# Altium schematic symbol library Hare_Library.schlib: 126 symbols
Pins are listed as number, name and electrical type; pins without a type are passive.

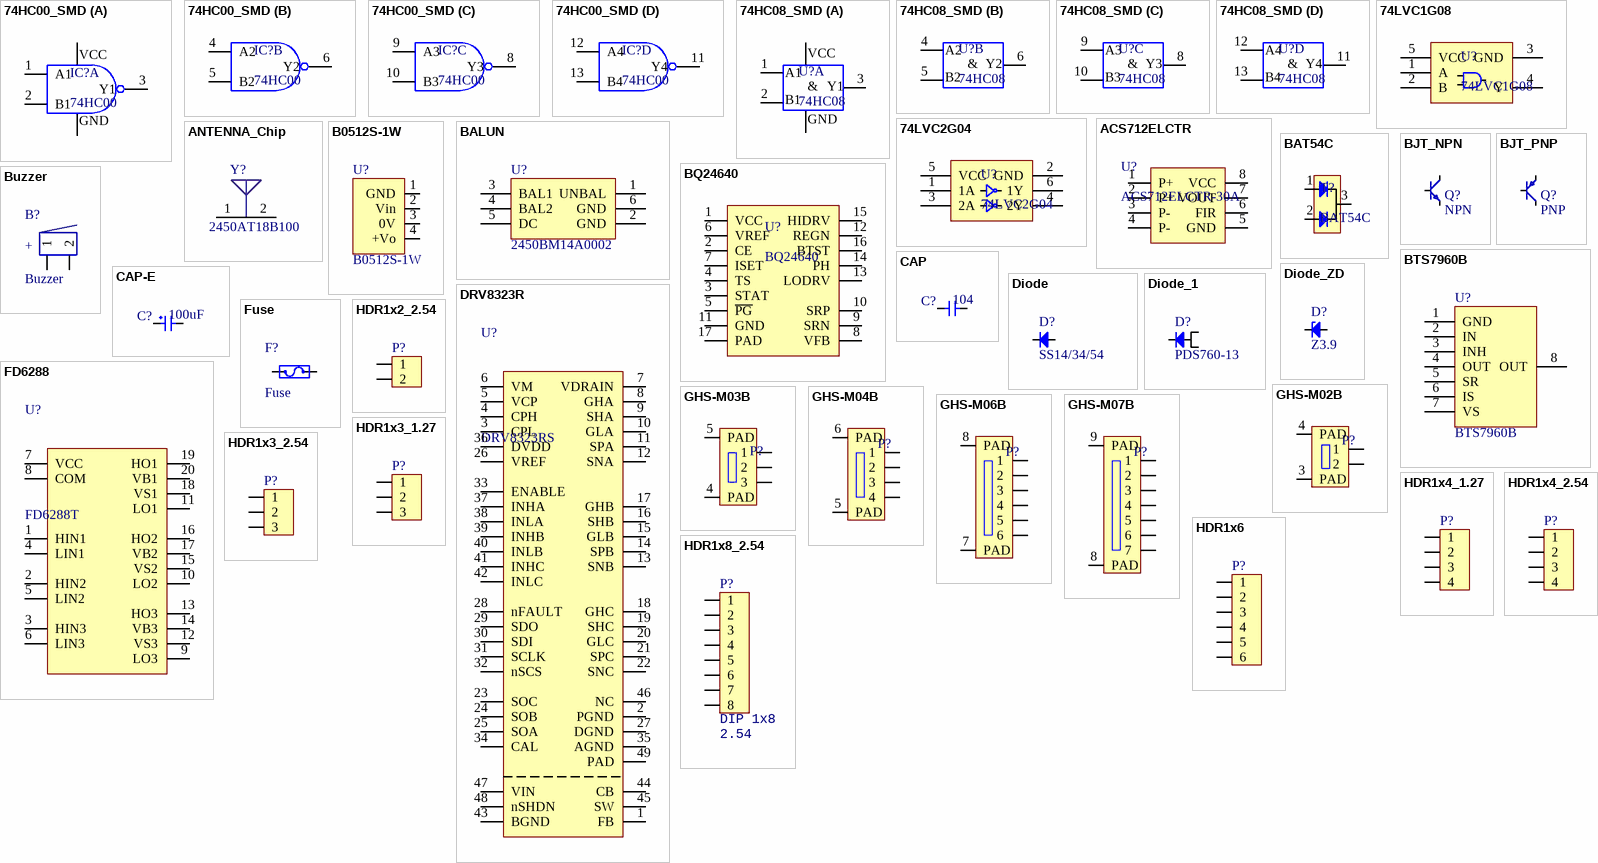
[diagram p0: symbols 74HC00_SMD to HDR1x8_2.54]

## 74HC00_SMD
designator IC?, comment 74HC00
footprint SOIC_14
part A pins: 1 A1, 2 B1, 3 Y1, 7 GND, 14 VCC
part B pins: 4 A2, 5 B2, 6 Y2
part C pins: 8 Y3, 9 A3, 10 B3
part D pins: 11 Y4, 12 A4, 13 B4

## 74HC08_SMD
designator U?, comment 74HC08
footprint SOIC_14
part A pins: 1 A1, 2 B1, 3 Y1, 7 GND, 14 VCC
part B pins: 4 A2, 5 B2, 6 Y2
part C pins: 8 Y3, 9 A3, 10 B3
part D pins: 11 Y4, 12 A4, 13 B4
part A text: &
part B text: &
part C text: &
part D text: &

## 74LVC1G08
designator U?
1通道与门
footprint SOT-23-5
pins: 1 A, 2 B, 3 GND, 4 Y, 5 VCC

## 74LVC2G04
designator U?
2通道非门
footprint SOT-23-6
pins: 1 1A, 2 GND, 3 2A, 4 2Y, 5 VCC, 6 1Y

## ACS712ELCTR
designator U?, comment ACS712ELCTR-30A
电流测量芯片
footprint SOIC_8
pins: 1 P+, 2 P+, 3 P-, 4 P-, 5 GND, 6 FIR, 7 VOUT, 8 VCC

## ANTENNA_Chip
designator Y?, comment 2450AT18B100
footprint 1206
pins: 1 FP, 2 NC

## B0512S-1W
designator U?
金升阳升压模块
footprint B0512S-1W
pins: 1 GND, 2 Vin, 3 0V, 4 +Vo

## BALUN
designator U?, comment 2450BM14A0002
巴伦平衡滤波器
footprint 0603-6 (SOIC, 6-Leads, Body 1.6x0.6mm (max), Pitch 1.27mm, IPC Medium Density)
pins: 1 UNBAL, 2 GND, 3 BAL1, 4 BAL2, 5 DC, 6 GND

## BAT54C
designator T?
footprint SOT-23-3
pins: 1, 2, 3

## BJT_NPN
designator Q?, comment NPN
Transistor
footprint SOT-23-3
pins: 1 B, 2 E, 3 C

## BJT_PNP
designator Q?, comment PNP
Transistor
footprint SOT-23-3
pins: 1 B, 2 E, 3 C

## BQ24640
designator U?
用于超级电容器的高效同步开关模式电池充电控制器
footprint VQFN16N
pins: 1 VCC, 2 CE, 3 STAT, 4 TS, 5 ~{PG}, 6 VREF, 7 ISET, 8 VFB, 9 SRN, 10 SRP, 11 GND, 12 REGN, 13 LODRV, 14 PH, 15 HIDRV, 16 BTST, 17 PAD

## BTS7960B
designator U?
footprint TO-263-7
pins: 1 GND, 2 IN, 3 INH, 4 OUT, 5 SR, 6 IS, 7 VS, 8 OUT

## Buzzer
designator B?
footprint Buzzer-4/5 (蜂鸣器脚距4-5mm)
footprint Buzzer-8530
footprint Buzzer-7525
pins: 1, 2
text: +

## CAP
designator C?, comment 104
footprint CAP-0402
footprint CAP-0603 (贴片0603无极性电容)
footprint CAP-0805
footprint CAP-1206 (贴片元件)
footprint CAP-1210 (贴片电容)
footprint CAP-0603-L
footprint CAP-1210-L (Chip Capacitor, 2-Leads, Body 3.20x2.50mm, IPC Medium Density)
footprint CAP-5750
pins: 1, 2

## CAP-E
designator C?, comment 100uF
pins: 1, 2

## Diode
designator D?, comment SS14/34/54
footprint Diode_AXL (直插二极管)
footprint Diode_SMA
footprint Diode_SMB
footprint Diode_SMC
footprint SOD_323
pins: 1, 2

## Diode_1
designator D?, comment PDS760-13
footprint PowerDi-5
pins: 1, 2, 3

## Diode_ZD
designator D?, comment Z3.9
footprint SOD_123
pins: 1, 2

## DRV8323R
designator U?, comment DRV8323RS
具有降压稳压器和三个分流放大器的 60V 三相智能栅极驱动器
footprint QFN_P0.5_48
pins: 1 FB, 2 PGND, 3 CPL, 4 CPH, 5 VCP, 6 VM, 7 VDRAIN, 8 GHA, 9 SHA, 10 GLA, 11 SPA, 12 SNA, 13 SNB, 14 SPB, 15 GLB, 16 SHB, 17 GHB, 18 GHC, 19 SHC, 20 GLC, 21 SPC, 22 SNC, 23 SOC, 24 SOB, 25 SOA, 26 VREF, 27 DGND, 28 nFAULT, 29 SDO, 30 SDI, 31 SCLK, 32 nSCS, 33 ENABLE, 34 CAL, 35 AGND, 36 DVDD, 37 INHA, 38 INLA, 39 INHB, 40 INLB, 41 INHC, 42 INLC, 43 BGND, 44 CB, 45 SW, 46 NC, 47 VIN, 48 nSHDN, 49 PAD

## FD6288
designator U?, comment FD6288T
三相250V栅极驱动器
footprint TSSOP_E170_P0.65_20
pins: 1 HIN1, 2 HIN2, 3 HIN3, 4 LIN1, 5 LIN2, 6 LIN3, 7 VCC, 8 COM, 9 LO3, 10 LO2, 11 LO1, 12 VS3, 13 HO3, 14 VB3, 15 VS2, 16 HO2, 17 VB2, 18 VS1, 19 HO1, 20 VB1

## Fuse
designator F?
footprint Fuse_0805 (500mA保险丝)
footprint FUSE_1206
footprint R-0603
footprint FUSE_1808 (1808/2410保险丝座)
pins: 1, 2

## GHS-M02B
designator P?, comment GH02  (value not drawn)
02GH座
footprint BM02B-GHS-TBT (GH02立式)
footprint SM02B-GHS-TB (GH02卧式)
pins: 1, 2, 3 PAD, 4 PAD

## GHS-M03B
designator P?, comment GH03  (value not drawn)
03GH座
footprint BM03B-GHS-TBT (GH03立式)
footprint SM03B-GHS-TB (GH03卧式)
pins: 1, 2, 3, 4 PAD, 5 PAD

## GHS-M04B
designator P?, comment GH04  (value not drawn)
04GH座
footprint BM04B-GHS-TBT (GH04立式)
footprint SM04B-GHS-TB (GH04卧式)
pins: 1, 2, 3, 4, 5 PAD, 6 PAD

## GHS-M06B
designator P?, comment GH06  (value not drawn)
06GH座
footprint BM06B-GHS-TBT (GH06立式)
footprint SM06B-GHS-TB (GH06卧式)
pins: 1, 2, 3, 4, 5, 6, 7 PAD, 8 PAD

## GHS-M07B
designator P?, comment GH07  (value not drawn)
07GH座
footprint BM07B-GHS-TBT (Footprint not found)
footprint SM07B-GHS-TB (GH07卧式)
pins: 1, 2, 3, 4, 5, 6, 7, 8 PAD, 9 PAD

## HDR1x2_2.54
designator P?  (value not drawn)
Header
footprint HDR1X2_2.54_90
footprint HDR1X2_2.54_90F
footprint HDR1X2_2.54_180
footprint HDR1X2_2.54_180F
footprint HDR1X2_2.54_180H
footprint HDR1X2_2.54_180HD
pins: 1, 2

## HDR1x3_1.27
designator P?  (value not drawn)
Header
footprint HDR1X3_1.27_180
footprint HDR1X3_1.27_180HF
pins: 1, 2, 3

## HDR1x3_2.54
designator P?  (value not drawn)
Header
footprint HDR1X3_2.54_90
footprint HDR1X3_2.54_90F
footprint HDR1X3_2.54_180
footprint HDR1X3_2.54_180F
pins: 1, 2, 3

## HDR1x4_1.27
designator P?  (value not drawn)
Header
footprint HDR1X4_1.27_180
footprint HDR1X4_1.27_180F
footprint HDR1X4_1.27_180H
footprint HDR1X4_1.27_180HF
pins: 1, 2, 3, 4

## HDR1x4_2.54
designator P?  (value not drawn)
Header
footprint HDR1X4_2.54_90 (Footprint not found)
footprint HDR1X4_2.54_90F (Footprint not found)
footprint HDR1x4_2.54_180 (Footprint not found)
footprint HDR1X4_2.54_180F (Footprint not found)
footprint HDR1X4_2.54_180H (Footprint not found)
pins: 1, 2, 3, 4

## HDR1x6
designator P?  (value not drawn)
Header
footprint HDR1X6_2.0_180F
pins: 1, 2, 3, 4, 5, 6

## HDR1x8_2.54
designator P?, comment value 2.54  (hidden comment: DIP 1x8)
Header; Type: DIP 1x8
footprint HDR1X8_2.54_90 (Footprint not found)
footprint HDR1X8_2.54_90F (Footprint not found)
footprint HDR1X8_2.54_180
footprint HDR1X8_2.54_180F
footprint HDR1X8_2.54_180S
pins: 1, 2, 3, 4, 5, 6, 7, 8

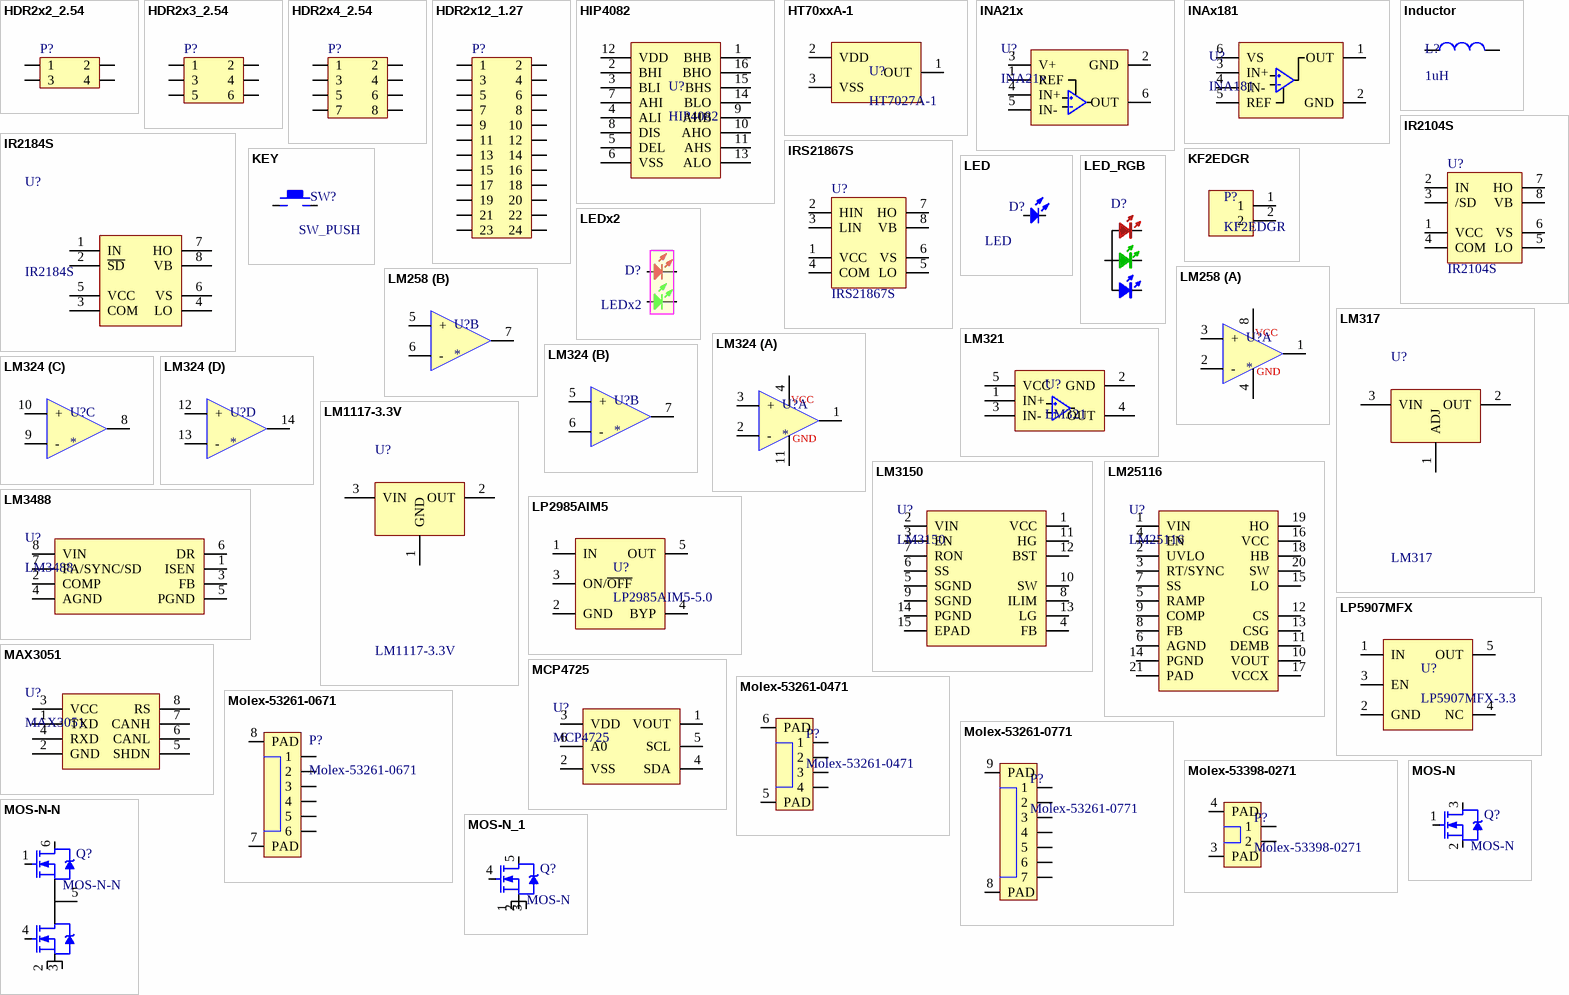
[diagram p1: symbols HDR2x2_2.54 to MOS-N_1]

## HDR2x2_2.54
designator P?  (value not drawn)
Header
footprint HDR2X2_2.54_90
footprint HDR2X2_2.54_90F
footprint HDR2X2_2.54_180
footprint HDR2X2_2.54_180F
footprint HDR2X2_2.54_180H
pins: 1, 2, 3, 4

## HDR2x3_2.54
designator P?  (value not drawn)
Header
footprint HDR2X3_2.54_90
footprint HDR2X3_2.54_90F
footprint HDR2X3_2.54_180
footprint HDR2X3_2.54_180F
footprint HDR2X3_2.54_180H
pins: 1, 2, 3, 4, 5, 6

## HDR2x4_2.54
designator P?  (value not drawn)
Header
footprint HDR2X4_2.54_90 (Footprint not found)
footprint HDR2X4_2.54_90F (Footprint not found)
footprint HDR2X4_2.54_180 (Footprint not found)
footprint HDR2X4_2.54_180F (Footprint not found)
footprint HDR2X4_2.54_180H (Footprint not found)
footprint HDR2X4_2.54_180HF (Footprint not found)
pins: 1, 2, 3, 4, 5, 6, 7, 8

## HDR2x12_1.27
designator P?  (value not drawn)
Header
footprint HDR2X12_2.54_180
footprint HDR2X12_2.54_180HF
footprint HDR2X12_1.27_180HF
footprint HDR2X12_2.54_180F
footprint HDR2X12_1.27_180HF
pins: 1, 2, 3, 4, 5, 6, 7, 8, 9, 10, 11, 12, 13, 14, 15, 16, 17, 18, 19, 20, 21, 22, 23, 24

## HIP4082
designator U?
footprint SOP_16
pins: 1 BHB, 2 BHI, 3 BLI, 4 ALI, 5 DEL, 6 VSS, 7 AHI, 8 DIS, 9 AHB, 10 AHO, 11 AHS, 12 VDD, 13 ALO, 14 BLO, 15 BHS, 16 BHO

## HT70xxA-1
designator U?, comment HT7027A-1
电压检测器
footprint SOT-89-3
pins: 1 OUT, 2 VDD, 3 VSS

## INA21x
designator U?
低侧/高侧、电压输出电流分流监控器
footprint SOT-23-6
pins: 1 REF, 2 GND, 3 V+, 4 IN+, 5 IN-, 6 OUT

## INAx181
designator U?, comment INA181
低侧/高侧、电压输出电流分流监控器
footprint SOT-23-6
pins: 1 OUT, 2 GND, 3 IN+, 4 IN-, 5 REF, 6 VS

## Inductor
designator L?, comment 1uH
电感
footprint L-SMD-3D16 (贴片电感4x4)
footprint L-SMD-4D28 (贴片电感5x5)
footprint L-0850 (7.8*7.5*5.0MM(长*宽*高))
footprint L-0630 (7*6.6*2.8MM(长*宽*高))
footprint L-0603
footprint L-10040 (10.1*11.6*4.0MM(长*宽*高))
pins: 1, 2

## IR2104S
designator U?
footprint SOIC_8
pins: 1 VCC, 2 IN, 3 /SD, 4 COM, 5 LO, 6 VS, 7 HO, 8 VB

## IR2184S
designator U?
footprint SOIC_8
pins: 1 IN, 2 ~{SD}, 3 COM, 4 LO, 5 VCC, 6 VS, 7 HO, 8 VB

## IRS21867S
designator U?
footprint SOIC_8
pins: 1 VCC, 2 HIN, 3 LIN, 4 COM, 5 LO, 6 VS, 7 HO, 8 VB

## KEY
designator SW?, comment SW_PUSH
footprint KEY_M (KEY_MID)
footprint KEY_2 (KEY?)
footprint KEY_SOP_BG (KEY?)
footprint KEY 侧式 (按键 贴片 侧式)
footprint KEY_2S
footprint KEY-1-2
footprint KEY-4P-4.2*3.4*2.5 (SKRPABE010)
pins: 1, 2

## KF2EDGR
designator P?
footprint KF2EDGR-3.81.2P
pins: 1, 2

## LED
designator D?
footprint LED-0603 (贴片0603发光二极管)
footprint LED-0805 (贴片0805发光二极管)
pins: 1, 2

## LED_RGB
designator D?  (value not drawn)
footprint LED_3528_RGB
pins: 1 R, 2 G, 3 B, 4 A

## LEDx2
designator D?
双色led
footprint LED_1616
pins: 1, 2, 3, 4

## LM258
designator U?
footprint SOIC_8
part A pins: 1, 2 -, 3 +, 4, 8
part B pins: 5 +, 6 -, 7
part A text: VCC; GND

## LM317
designator U?
可调三端稳压
footprint SOT-223
pins: 1 ADJ, 2 OUT, 3 VIN

## LM321
designator U?
1通道运放
footprint SOT-23-5
pins: 1 IN+, 2 GND, 3 IN-, 4 OUT, 5 VCC

## LM324
designator U?
footprint SOIC_14
part A pins: 1, 2 -, 3 +, 4, 11
part B pins: 5 +, 6 -, 7
part C pins: 8, 9 -, 10 +
part D pins: 12 +, 13 -, 14
part A text: VCC; GND

## LM1117-3.3V
designator U?
footprint SOT-223
pins: 1 GND, 2 OUT, 3 VIN

## LM3150
designator U?
具有可调输出电压的 6V 至 42V 同步降压控制器
footprint TSSOP_E170_P0.65_14_PAD
pins: 1 VCC, 2 VIN, 3 EN, 4 FB, 5 SGND, 6 SS, 7 RON, 8 ILIM, 9 SGND, 10 SW, 11 HG, 12 BST, 13 LG, 14 PGND, 15 EPAD

## LM3488
designator U?
Automotive High-Efficiency Controller for Boost, SEPIC and Fly-Back DC-DCConverters
footprint MSOP_E120_P0.5_10
pins: 1 ISEN, 2 COMP, 3 FB, 4 AGND, 5 PGND, 6 DR, 7 FA/SYNC/SD, 8 VIN

## LM25116
designator U?
42V 宽输入电压同步降压控制器
footprint TSSOP_E170_P0.65_20_PAD (Footprint not found)
pins: 1 VIN, 2 UVLO, 3 RT/SYNC, 4 EN, 5 RAMP, 6 AGND, 7 SS, 8 FB, 9 COMP, 10 VOUT, 11 DEMB, 12 CS, 13 CSG, 14 PGND, 15 LO, 16 VCC, 17 VCCX, 18 HB, 19 HO, 20 SW, 21 PAD

## LP2985AIM5
designator U?, comment LP2985AIM5-5.0
5.0-LDO
footprint SOT-23-5
pins: 1 IN, 2 GND, 3 ON/~{OFF}, 4 BYP, 5 OUT

## LP5907MFX
designator U?, comment LP5907MFX-3.3
footprint SOT-23-5
pins: 1 IN, 2 GND, 3 EN, 4 NC, 5 OUT

## MAX3051
designator U?
CAN控制器
footprint SOT-23-8
pins: 1 TXD, 2 GND, 3 VCC, 4 RXD, 5 SHDN, 6 CANL, 7 CANH, 8 RS

## MCP4725
designator U?
I2C 12bit DAC
footprint SOT-23-6
pins: 1 VOUT, 2 VSS, 3 VDD, 4 SDA, 5 SCL, 6 A0

## Molex-53261-0471
designator P?
1.25mm Pitch PicoBlade Header
footprint Molex-53261-0471 (1.25mm Pitch PicoBlade Header)
pins: 1, 2, 3, 4, 5 PAD, 6 PAD

## Molex-53261-0671
designator P?
1.25mm Pitch PicoBlade Header
footprint Molex-53261-0671 (卧式1.25mm Pitch PicoBlade Header)
pins: 1, 2, 3, 4, 5, 6, 7 PAD, 8 PAD

## Molex-53261-0771
designator P?
1.25mm Pitch PicoBlade Header
footprint Molex-53261-0771 (卧式1.25mm Pitch PicoBlade Header)
pins: 1, 2, 3, 4, 5, 6, 7, 8 PAD, 9 PAD

## Molex-53398-0271
designator P?
1.25mm Pitch PicoBlade Header
footprint Molex-53398-0271 (立式1.25mm Pitch PicoBlade Header)
footprint Molex-53261-0271 (卧式1.25mm Pitch PicoBlade Header)
pins: 1, 2, 3 PAD, 4 PAD

## MOS-N
designator Q?
footprint TO-252 (贴片MOS管)
footprint SOT-23-3
footprint TO-252-small (贴片MOS管)
pins: 1 G, 2 S, 3 D

## MOS-N-N
designator Q?
footprint DFN5×6 EP2
pins: 1 G, 2 S, 3 S, 4 G, 5 D, 6 D

## MOS-N_1
designator Q?, comment MOS-N
footprint SOT-669 (DPAK, 4-Leads, Body 5x4.1mm, Pitch 1.27mm, IPC Medium Density)
footprint DFN5x6
pins: 1 S, 2 S, 3 S, 4 G, 5 D

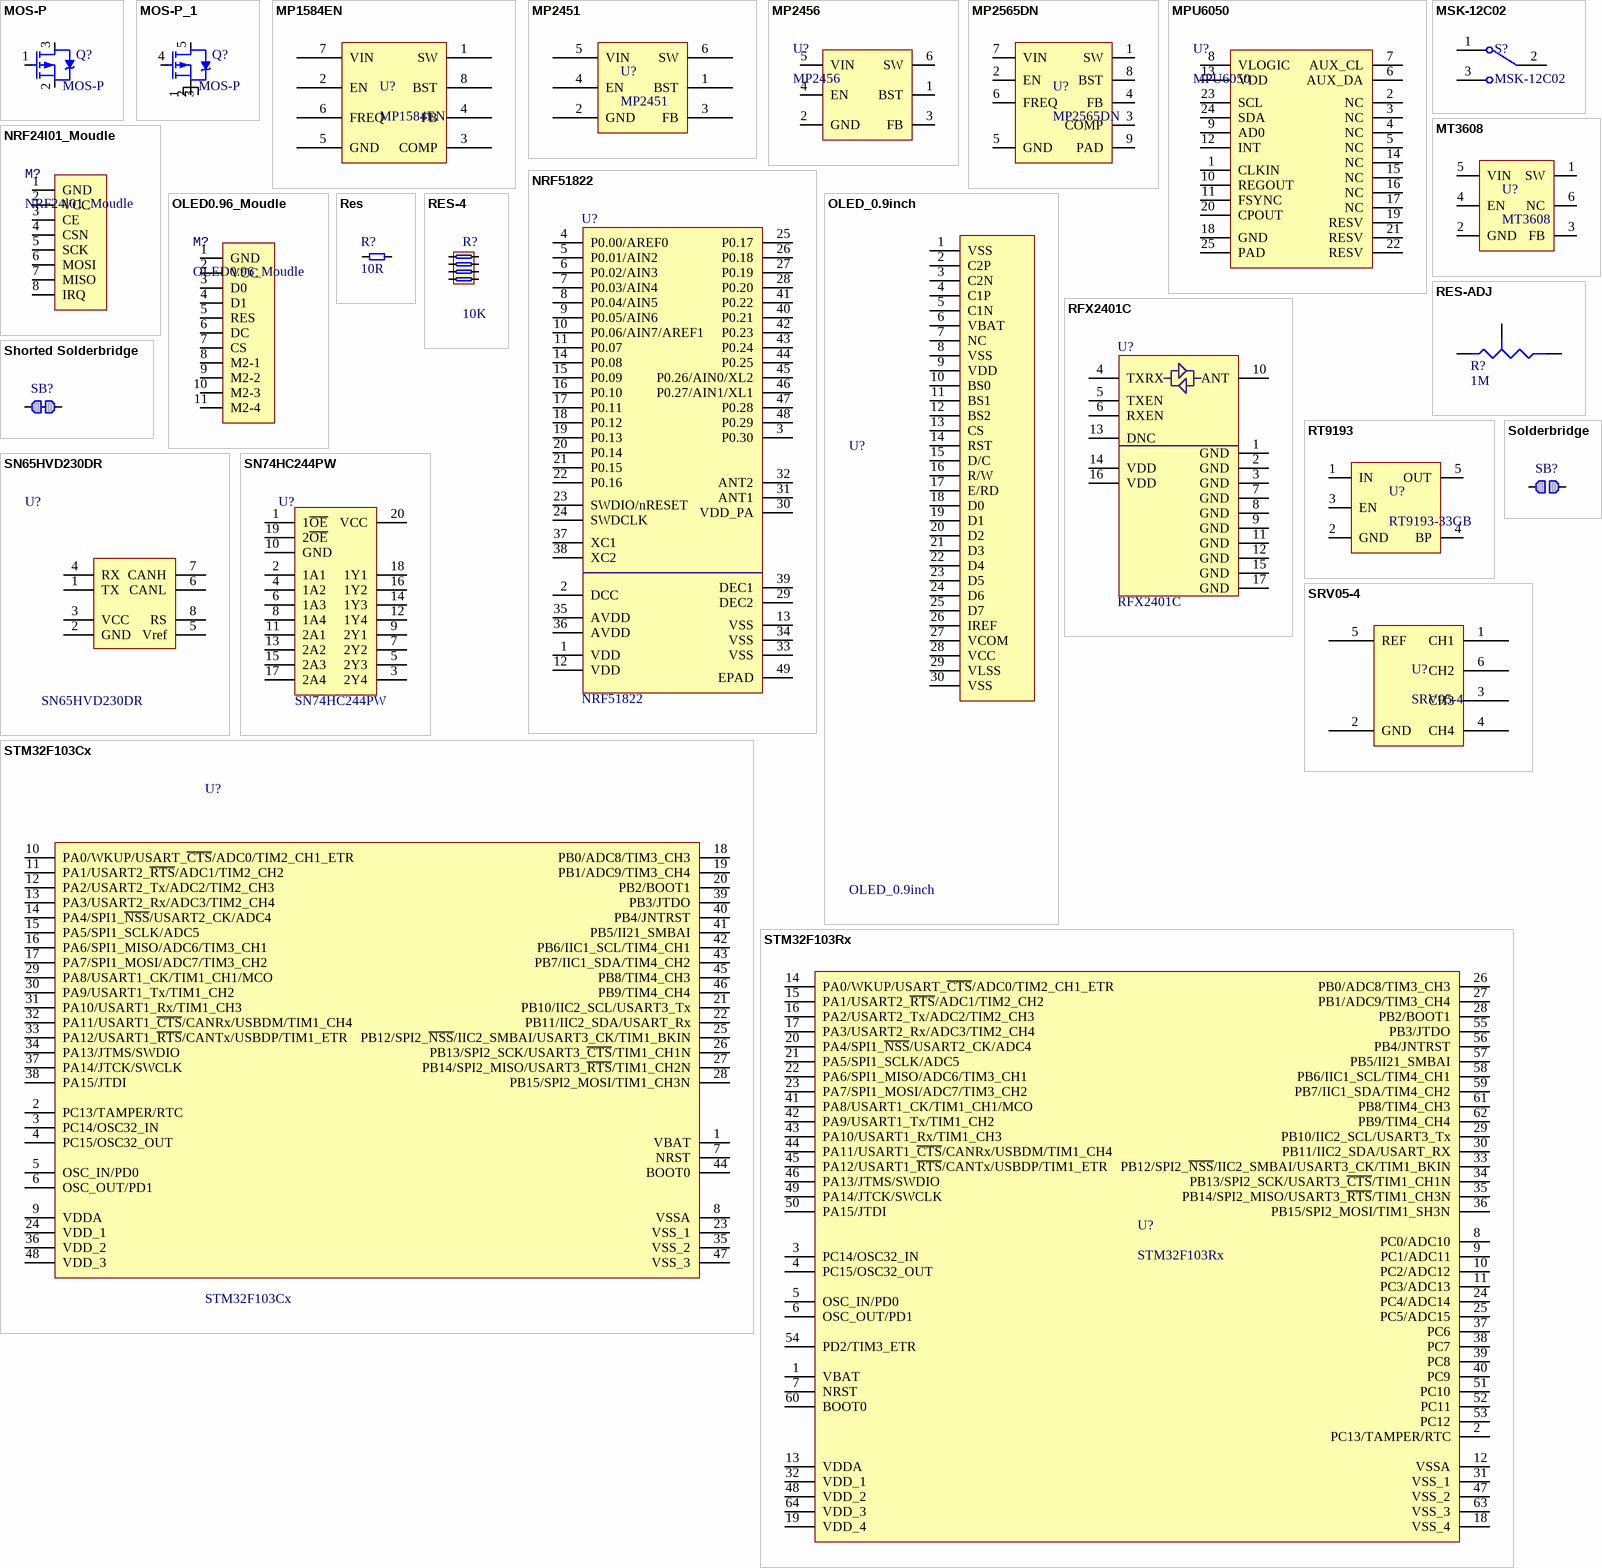
[diagram p2: symbols MOS-P to STM32F103Rx]

## MOS-P
designator Q?
footprint TO-252 (贴片MOS管)
footprint TO-252-small (贴片MOS管)
footprint SOT-23-3
pins: 1 G, 2 S, 3 D

## MOS-P_1
designator Q?, comment MOS-P
footprint SOT-669 (DPAK, 4-Leads, Body 5x4.1mm, Pitch 1.27mm, IPC Medium Density)
footprint DFN5x6
pins: 1 S, 2 S, 3 S, 4 G, 5 D

## MP1584EN
designator U?
footprint SOIC_8_PAD
pins: 1 SW, 2 EN, 3 COMP, 4 FB, 5 GND, 6 FREQ, 7 VIN, 8 BST

## MP2451
designator U?
footprint SOT-23-6
pins: 1 BST, 2 GND, 3 FB, 4 EN, 5 VIN, 6 SW

## MP2456
designator U?
footprint SOT-23-6
pins: 1 BST, 2 GND, 3 FB, 4 EN, 5 VIN, 6 SW

## MP2565DN
designator U?
2.5A, 4MHz, 50V
footprint SOIC_8_PAD
pins: 1 SW, 2 EN, 3 COMP, 4 FB, 5 GND, 6 FREQ, 7 VIN, 8 BST, 9 PAD

## MPU6050
designator U?
Sensor Motion; Type: QFN24 P0.4
footprint QFN-24-4x4 (QFN, 24-Leads, Body 4.00x4.00mm, Pitch 0.50mm, Thermal Pad 2.70x2.60mm, IPC Medium Density)
pins: 1 CLKIN, 2 NC, 3 NC, 4 NC, 5 NC, 6 AUX_DA, 7 AUX_CL, 8 VLOGIC, 9 AD0, 10 REGOUT, 11 FSYNC, 12 INT, 13 VDD, 14 NC, 15 NC, 16 NC, 17 NC, 18 GND, 19 RESV, 20 CPOUT, 21 RESV, 22 RESV, 23 SCL, 24 SDA, 25 PAD

## MSK-12C02
designator S?
footprint MSK-12C02
pins: 1, 2 6, 3 5

## MT3608
designator U?
footprint SOT-23-6
pins: 1 SW, 2 GND, 3 FB, 4 EN, 5 VIN, 6 NC

## NRF24l01_Moudle
designator M?
footprint NRF24l01_Moudle
pins: 1 GND, 2 VCC, 3 CE, 4 CSN, 5 SCK, 6 MOSI, 7 MISO, 8 IRQ

## NRF51822
designator U?
footprint QFN48M-04 (QFN, 48-Leads, Body 6.0x6.0mm (max), Pitch 0.40mm, IPC Low Density)
pins: 1 VDD, 2 DCC, 3 P0.30, 4 P0.00/AREF0, 5 P0.01/AIN2, 6 P0.02/AIN3, 7 P0.03/AIN4, 8 P0.04/AIN5, 9 P0.05/AIN6, 10 P0.06/AIN7/AREF1, 11 P0.07, 12 VDD, 13 VSS, 14 P0.08, 15 P0.09, 16 P0.10, 17 P0.11, 18 P0.12, 19 P0.13, 20 P0.14, 21 P0.15, 22 P0.16, 23 SWDIO/nRESET, 24 SWDCLK, 25 P0.17, 26 P0.18, 27 P0.19, 28 P0.20, 29 DEC2, 30 VDD_PA, 31 ANT1, 32 ANT2, 33 VSS, 34 VSS, 35 AVDD, 36 AVDD, 37 XC1, 38 XC2, 39 DEC1, 40 P0.21, 41 P0.22, 42 P0.23, 43 P0.24, 44 P0.25, 45 P0.26/AIN0/XL2, 46 P0.27/AIN1/XL1, 47 P0.28, 48 P0.29, 49 EPAD

## OLED0.96_Moudle
designator M?
footprint OLED0.96_Moudle
pins: 1 GND, 2 VCC, 3 D0, 4 D1, 5 RES, 6 DC, 7 CS, 8 M2-1, 9 M2-2, 10 M2-3, 11 M2-4

## OLED_0.9inch
designator U?
footprint OLED_0.96inch
pins: 1 VSS, 2 C2P, 3 C2N, 4 C1P, 5 C1N, 6 VBAT, 7 NC, 8 VSS, 9 VDD, 10 BS0, 11 BS1, 12 BS2, 13 CS, 14 RST, 15 D/C, 16 R/W, 17 E/RD, 18 D0, 19 D1, 20 D2, 21 D3, 22 D4, 23 D5, 24 D6, 25 D7, 26 IREF, 27 VCOM, 28 VCC, 29 VLSS, 30 VSS

## Res
designator R?, comment 10R
footprint R-0402
footprint R-0603 (贴片0603电容)
footprint R-0805 (贴片0805电阻)
footprint R-0603-L
pins: 1, 2

## RES-4
designator R?, comment 10K
footprint R-0402X4
footprint R-0603X4
pins: 1, 2, 3, 4, 5, 6, 7, 8

## RES-ADJ
designator R?, comment 1M
footprint R-ADJ-3X3
footprint R-ADJ-3296W
footprint 3314J-1-5*5mm (进口电位器)
pins: 1, 2, 3

## RFX2401C
designator U?
footprint QFN16 (QFN, 16-Leads, Body 3.1x3.1mm (max), Pitch 0.50mm, IPC Medium Density)
footprint QFN16M
pins: 1 GND, 2 GND, 3 GND, 4 TXRX, 5 TXEN, 6 RXEN, 7 GND, 8 GND, 9 GND, 10 ANT, 11 GND, 12 GND, 13 DNC, 14 VDD, 15 GND, 16 VDD, 17 GND

## RT9193
designator U?, comment RT9193-33GB
LDO
footprint SOT-23-5
pins: 1 IN, 2 GND, 3 EN, 4 BP, 5 OUT

## Shorted Solderbridge
designator SB?, comment Solderbridge  (value not drawn)  (no BOM)
Shorted Solderbridge; Value: Solderbridge
footprint Solderbridge_Shorted
pins: 1, 2

## SN65HVD230DR
designator U?
CAN芯片
footprint SOIC_8
pins: 1 TX, 2 GND, 3 VCC, 4 RX, 5 Vref, 6 CANL, 7 CANH, 8 RS

## SN74HC244PW
designator U?
footprint TSSOP20
pins: 1 1~{OE}, 2 1A1, 3 2Y4, 4 1A2, 5 2Y3, 6 1A3, 7 2Y2, 8 1A4, 9 2Y1, 10 GND, 11 2A1, 12 1Y4, 13 2A2, 14 1Y3, 15 2A3, 16 1Y2, 17 2A4, 18 1Y1, 19 2~{OE}, 20 VCC

## Solderbridge
designator SB?  (value not drawn)  (no BOM)
Value: Solderbridge
footprint Solderbridge
footprint Solderbridge-0603
pins: 1, 2

## SRV05-4
designator U?
footprint SOT-23-6
pins: 1 CH1, 2 GND, 3 CH3, 4 CH4, 5 REF, 6 CH2

## STM32F103Cx
designator U?
footprint LQFP_48
pins: 1 VBAT, 2 PC13/TAMPER/RTC, 3 PC14/OSC32_IN, 4 PC15/OSC32_OUT, 5 OSC_IN/PD0, 6 OSC_OUT/PD1, 7 NRST, 8 VSSA, 9 VDDA, 10 PA0/WKUP/USART_~{CTS}/ADC0/TIM2_CH1_ETR, 11 PA1/USART2_~{RTS}/ADC1/TIM2_CH2, 12 PA2/USART2_Tx/ADC2/TIM2_CH3, 13 PA3/USART2_Rx/ADC3/TIM2_CH4, 14 PA4/SPI1_~{NSS}/USART2_CK/ADC4, 15 PA5/SPI1_SCLK/ADC5, 16 PA6/SPI1_MISO/ADC6/TIM3_CH1, 17 PA7/SPI1_MOSI/ADC7/TIM3_CH2, 18 PB0/ADC8/TIM3_CH3, 19 PB1/ADC9/TIM3_CH4, 20 PB2/BOOT1, 21 PB10/IIC2_SCL/USART3_Tx, 22 PB11/IIC2_SDA/USART_Rx, 23 VSS_1, 24 VDD_1, 25 PB12/SPI2_~{NSS}/IIC2_SMBAI/USART3_CK/TIM1_BKIN, 26 PB13/SPI2_SCK/USART3_~{CTS}/TIM1_CH1N, 27 PB14/SPI2_MISO/USART3_~{RTS}/TIM1_CH2N, 28 PB15/SPI2_MOSI/TIM1_CH3N, 29 PA8/USART1_CK/TIM1_CH1/MCO, 30 PA9/USART1_Tx/TIM1_CH2, 31 PA10/USART1_Rx/TIM1_CH3, 32 PA11/USART1_~{CTS}/CANRx/USBDM/TIM1_CH4, 33 PA12/USART1_~{RTS}/CANTx/USBDP/TIM1_ETR, 34 PA13/JTMS/SWDIO, 35 VSS_2, 36 VDD_2, 37 PA14/JTCK/SWCLK, 38 PA15/JTDI, 39 PB3/JTDO, 40 PB4/JNTRST, 41 PB5/II21_SMBAI, 42 PB6/IIC1_SCL/TIM4_CH1, 43 PB7/IIC1_SDA/TIM4_CH2, 44 BOOT0, 45 PB8/TIM4_CH3, 46 PB9/TIM4_CH4, 47 VSS_3, 48 VDD_3

## STM32F103Rx
designator U?
footprint LQFP_64
pins: 1 VBAT, 2 PC13/TAMPER/RTC, 3 PC14/OSC32_IN, 4 PC15/OSC32_OUT, 5 OSC_IN/PD0, 6 OSC_OUT/PD1, 7 NRST, 8 PC0/ADC10, 9 PC1/ADC11, 10 PC2/ADC12, 11 PC3/ADC13, 12 VSSA, 13 VDDA, 14 PA0/WKUP/USART_~{CTS}/ADC0/TIM2_CH1_ETR, 15 PA1/USART2_~{RTS}/ADC1/TIM2_CH2, 16 PA2/USART2_Tx/ADC2/TIM2_CH3, 17 PA3/USART2_Rx/ADC3/TIM2_CH4, 18 VSS_4, 19 VDD_4, 20 PA4/SPI1_~{NSS}/USART2_CK/ADC4, 21 PA5/SPI1_SCLK/ADC5, 22 PA6/SPI1_MISO/ADC6/TIM3_CH1, 23 PA7/SPI1_MOSI/ADC7/TIM3_CH2, 24 PC4/ADC14, 25 PC5/ADC15, 26 PB0/ADC8/TIM3_CH3, 27 PB1/ADC9/TIM3_CH4, 28 PB2/BOOT1, 29 PB10/IIC2_SCL/USART3_Tx, 30 PB11/IIC2_SDA/USART_RX, 31 VSS_1, 32 VDD_1, 33 PB12/SPI2_~{NSS}/IIC2_SMBAI/USART3_CK/TIM1_BKIN, 34 PB13/SPI2_SCK/USART3_~{CTS}/TIM1_CH1N, 35 PB14/SPI2_MISO/USART3_~{RTS}/TIM1_CH3N, 36 PB15/SPI2_MOSI/TIM1_SH3N, 37 PC6, 38 PC7, 39 PC8, 40 PC9, 41 PA8/USART1_CK/TIM1_CH1/MCO, 42 PA9/USART1_Tx/TIM1_CH2, 43 PA10/USART1_Rx/TIM1_CH3, 44 PA11/USART1_~{CTS}/CANRx/USBDM/TIM1_CH4, 45 PA12/USART1_~{RTS}/CANTx/USBDP/TIM1_ETR, 46 PA13/JTMS/SWDIO, 47 VSS_2, 48 VDD_2, 49 PA14/JTCK/SWCLK, 50 PA15/JTDI, 51 PC10, 52 PC11, 53 PC12, 54 PD2/TIM3_ETR, 55 PB3/JTDO, 56 PB4/JNTRST, 57 PB5/II21_SMBAI, 58 PB6/IIC1_SCL/TIM4_CH1, 59 PB7/IIC1_SDA/TIM4_CH2, 60 BOOT0, 61 PB8/TIM4_CH3, 62 PB9/TIM4_CH4, 63 VSS_3, 64 VDD_3

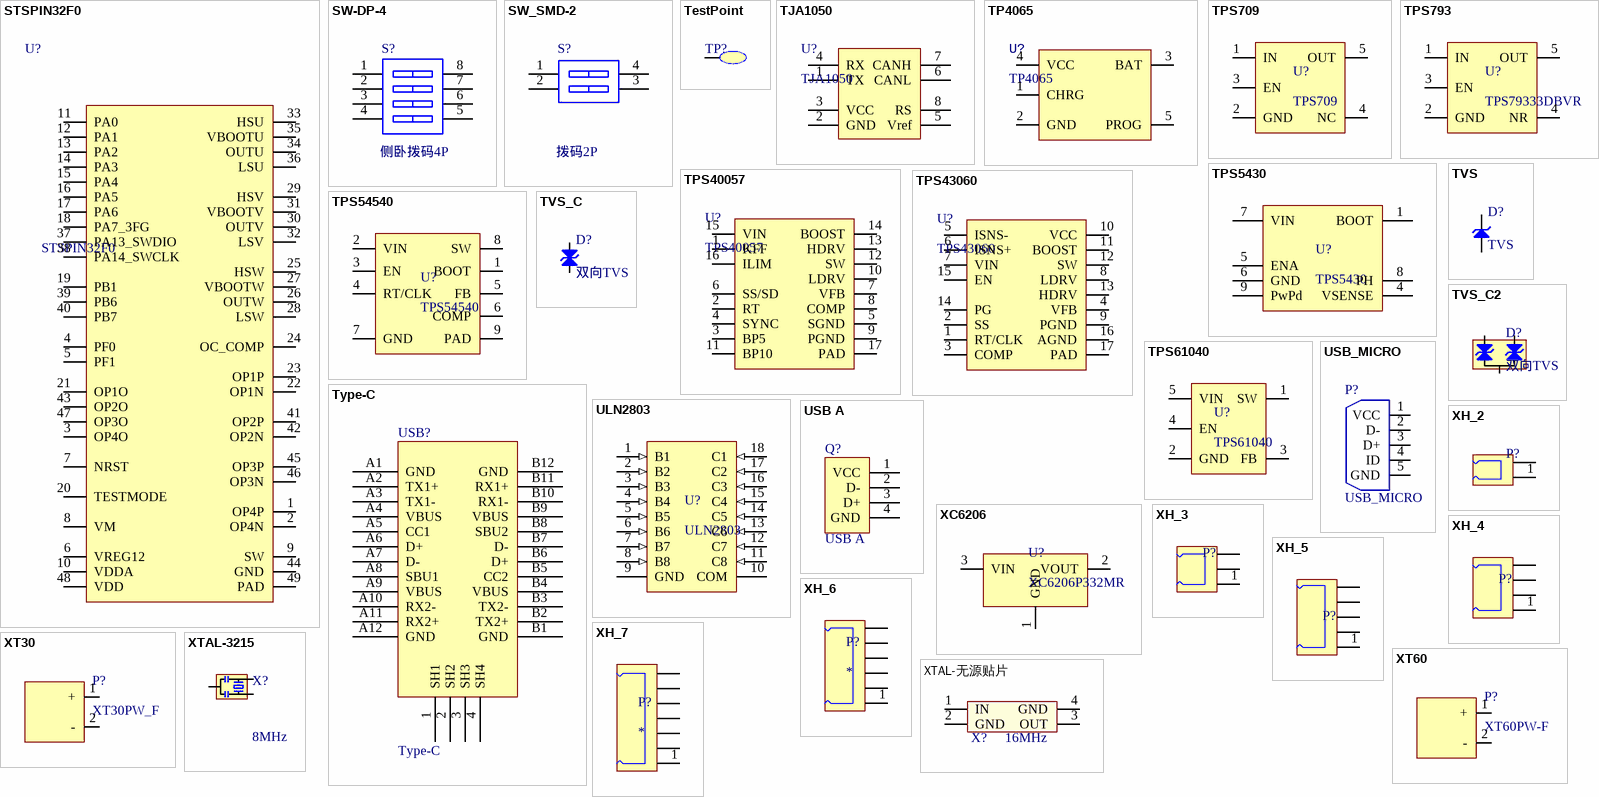
[diagram p3: symbols STSPIN32F0 to XTAL-无源贴片]

## STSPIN32F0
designator U?
footprint VFQFPN_0.5_48
pins: 1 OP4P, 2 OP4N, 3 OP4O, 4 PF0, 5 PF1, 6 VREG12, 7 NRST, 8 VM, 9 SW, 10 VDDA, 11 PA0, 12 PA1, 13 PA2, 14 PA3, 15 PA4, 16 PA5, 17 PA6, 18 PA7_3FG, 19 PB1, 20 TESTMODE, 21 OP1O, 22 OP1N, 23 OP1P, 24 OC_COMP, 25 HSW, 26 OUTW, 27 VBOOTW, 28 LSW, 29 HSV, 30 OUTV, 31 VBOOTV, 32 LSV, 33 HSU, 34 OUTU, 35 VBOOTU, 36 LSU, 37 PA13_SWDIO, 38 PA14_SWCLK, 39 PB6, 40 PB7, 41 OP2P, 42 OP2N, 43 OP2O, 44 GND, 45 OP3P, 46 OP3N, 47 OP3O, 48 VDD, 49 PAD

## SW-DP-4
designator S?, comment 侧卧拨码4P
footprint SW-DP-4
footprint SW-SMD-4-1.27
footprint SW-SMD-4-2.54
pins: 1 A1, 2 A2, 3 A3, 4 A4, 5 B4, 6 B3, 7 B2, 8 B1

## SW_SMD-2
designator S?, comment 拨码2P
footprint SW-SMD-2-2.54
footprint SW-SMD-2-1.27
pins: 1 A1, 2 A2, 3 B2, 4 B1

## TestPoint
designator TP?  (value not drawn)
footprint TestPoint
pins: 1

## TJA1050
designator U?
CAN控制器
footprint SOP-8
pins: 1 TX, 2 GND, 3 VCC, 4 RX, 5 Vref, 6 CANL, 7 CANH, 8 RS

## TP4065
designator U?
TP4065线性锂离子电池充电器
footprint SOT-23-5
pins: 1 CHRG, 2 GND, 3 BAT, 4 VCC, 5 PROG

## TPS709
designator U?
具有使能端的 150-mA 超低 Iq LDO
footprint SOT-23-5
pins: 1 IN, 2 GND, 3 EN, 4 NC, 5 OUT

## TPS793
designator U?, comment TPS79333DBVR
3.3-LDO
footprint SOT-23-5
pins: 1 IN, 2 GND, 3 EN, 4 NR, 5 OUT

## TPS5430
designator U?
footprint SOIC_8_PAD
pins: 1 BOOT, 4 VSENSE, 5 ENA, 6 GND, 7 VIN, 8 PH, 9 PwPd

## TPS40057
designator U?
footprint TSSOP_E170_P0.65_16_PAD
pins: 1 KFF, 2 RT, 3 BP5, 4 SYNC, 5 SGND, 6 SS/SD, 7 VFB, 8 COMP, 9 PGND, 10 LDRV, 11 BP10, 12 SW, 13 HDRV, 14 BOOST, 15 VIN, 16 ILIM, 17 PAD

## TPS43060
designator U?
同步升压控制器
footprint WQFN_P0.5_16
pins: 1 RT/CLK, 2 SS, 3 COMP, 4 VFB, 5 ISNS-, 6 ISNS+, 7 VIN, 8 LDRV, 9 PGND, 10 VCC, 11 BOOST, 12 SW, 13 HDRV, 14 PG, 15 EN, 16 AGND, 17 PAD

## TPS54540
designator U?
5A, 2.5MHz, 42V
footprint SOIC_8_PAD
pins: 1 BOOT, 2 VIN, 3 EN, 4 RT/CLK, 5 FB, 6 COMP, 7 GND, 8 SW, 9 PAD

## TPS61040
designator U?
400-mA Switch Boost Converter
footprint SOT-23-5
pins: 1 SW, 2 GND, 3 FB, 4 EN, 5 VIN

## TVS
designator D?
footprint Diode_AXL (直插二极管)
footprint Diode_SMA
footprint Diode_SMB
footprint Diode_SMC
footprint SOD_323
pins: 1, 2

## TVS_C
designator D?, comment 双向TVS
footprint Diode_1206
footprint Diode_AXL (直插二极管)
footprint Diode_SMA
footprint Diode_SMB
footprint Diode_SMC
footprint SOD_323
pins: 1, 2

## TVS_C2
designator D?, comment 双向TVS
footprint SOT-23-3
pins: 1, 2, 3

## Type-C
designator USB?
footprint Type-C (16pin)
pins: 1 SH1, 2 SH2, 3 SH3, 4 SH4, A1 GND, A2 TX1+, A3 TX1-, A4 VBUS, A5 CC1, A6 D+, A7 D-, A8 SBU1, A9 VBUS, A10 RX2-, A11 RX2+, A12 GND, B1 GND, B2 TX2+, B3 TX2-, B4 VBUS, B5 CC2, B6 D+, B7 D-, B8 SBU2, B9 VBUS, B10 RX1-, B11 RX1+, B12 GND

## ULN2803
designator U?
footprint SOWIC_18
pins: 1 B1 (in), 2 B2 (in), 3 B3 (in), 4 B4 (in), 5 B5 (in), 6 B6 (in), 7 B7 (in), 8 B8 (in), 9 GND, 10 COM, 11 C8 (in), 12 C7 (in), 13 C6 (in), 14 C5 (in), 15 C4 (in), 16 C3 (in), 17 C2 (in), 18 C1 (in)

## USB A
designator Q?
footprint USB-A-male
footprint USB_A(M)_DIP
pins: 1 VCC, 2 D-, 3 D+, 4 GND

## USB_MICRO
designator P?
footprint USB/SM0.8-6H5
footprint Micro usb座 (Micro usb座 5pin)
footprint Micro usb座 -全贴片
footprint MICROUSB-SOP
footprint MICRO_USB5P_SOP
pins: 1 VCC, 2 D-, 3 D+, 4 ID, 5 GND

## XC6206
designator U?, comment XC6206P332MR
低压差稳压; IMax: 250mA; VinMax: 6V; Vout: 3.3V; Model Number: XC6206P332MR
footprint SOT-23-3
pins: 1 GND, 2 VOUT, 3 VIN

## XH_2
designator P?  (value not drawn)
footprint XH_2
footprint XH_2-SLEEP
pins: 1, 2

## XH_3
designator P?  (value not drawn)
footprint XH_3
footprint XH_3-sleep
pins: 1, 2, 3

## XH_4
designator P?  (value not drawn)
footprint XH_4
footprint XH_4-sleep
pins: 1, 2, 3, 4

## XH_5
designator P?  (value not drawn)
footprint XH_5
footprint XH_5-sleep
pins: 1, 2, 3, 4, 5

## XH_6
designator P?
footprint XH_6
footprint XH_6-sleep
pins: 1, 2, 3, 4, 5, 6

## XH_7
designator P?
footprint XH_7
pins: 1, 2, 3, 4, 5, 6, 7

## XT30
designator P?, comment XT30PW_F
XT30
footprint XT30PW-F
footprint XT30PW-M
footprint XT30UPB-F
footprint XT30UPB-M
pins: 1 +, 2 -

## XT60
designator P?, comment XT60PW-F
XT60
footprint XT60PW-F
footprint XT60PW-M
footprint XT60UPB-F
footprint XT60UPB-M
pins: 1 +, 2 -

## XTAL-3215
designator X?, comment 8MHz
footprint XTAL3215
footprint CSTCE_G(A)村田晶振
pins: 1 OSC1, 2 GND, 3 OSC2

## XTAL-无源贴片
designator X?, comment 16MHz
无源贴片晶振
footprint XTAL3225   无源 (32*25mm 无源晶振贴片)
pins: 1 IN, 2 GND, 3 OUT, 4 GND